# Altium footprint library MIT_Pcblib.PcbLib: 41 footprints (part 2 of 3)
Each footprint in its own frame and in the unit in brackets; x right, y up, seen from the top. Pads: shape width x height; smd on the part's side, far side on the other; paste and mask are expansions set on the pad; w line width, h text height; cw(c..) or ccw(c..) is an arc to the next point about the centre after c.
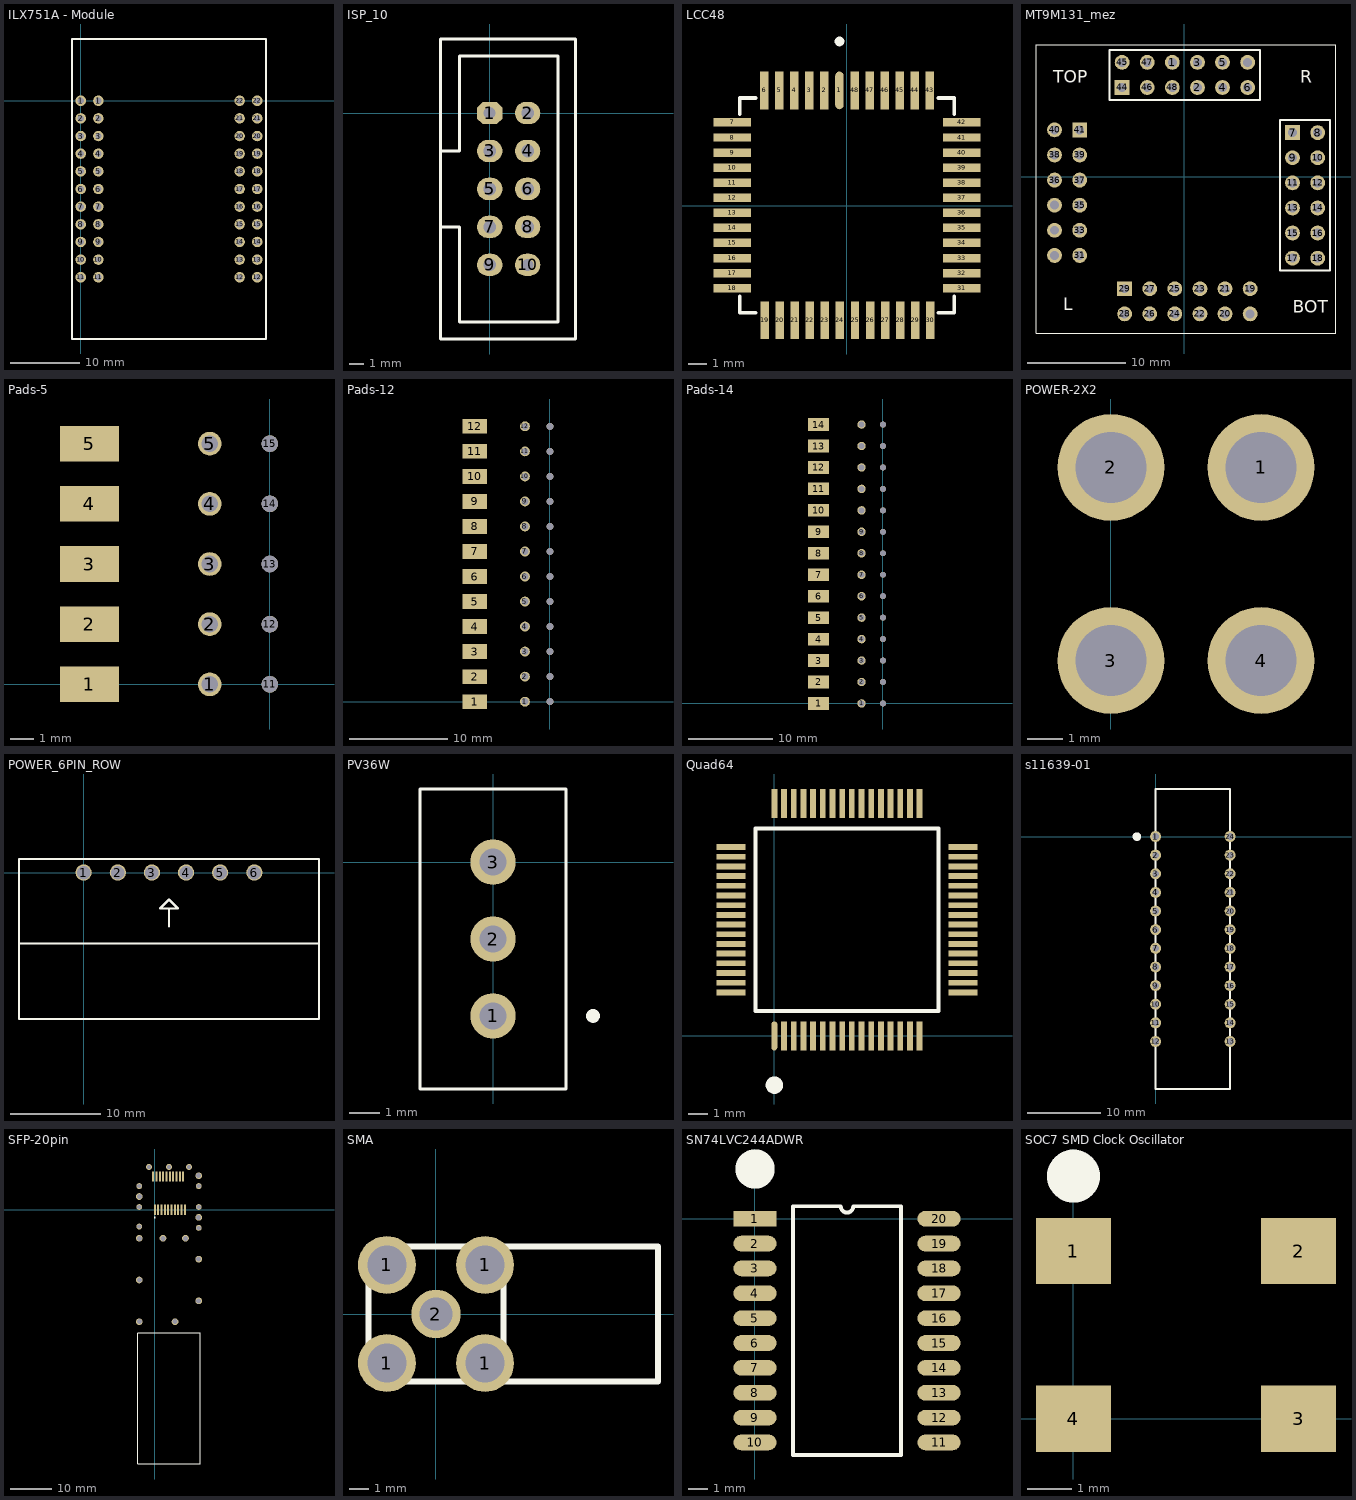
[diagram p1: the footprints below, top view; thin cyan lines are the x and y axes]

## ILX751A - Module [mm]
pads (44):
  round 1.5 hole 0.9: 1(0,0) 1(2.54,0) 2(0,-2.54) 2(2.54,-2.54) 3(0,-5.08) 3(2.54,-5.08) 4(0,-7.62) 4(2.54,-7.62) 5(0,-10.16) 5(2.54,-10.16) 6(0,-12.7) 6(2.54,-12.7) 7(0,-15.24) 7(2.54,-15.24) 8(0,-17.78) 8(2.54,-17.78) 9(0,-20.32) 9(2.54,-20.32) 10(0,-22.86) 10(2.54,-22.86) 11(0,-25.4) 11(2.54,-25.4) 12(22.86,-25.4) 12(25.4,-25.4) 13(22.86,-22.86) 13(25.4,-22.86) 14(22.86,-20.32) 14(25.4,-20.32) 15(22.86,-17.78) 15(25.4,-17.78) 16(22.86,-15.24) 16(25.4,-15.24) 17(22.86,-12.7) 17(25.4,-12.7) 18(22.86,-10.16) 18(25.4,-10.16) 19(22.86,-7.62) 19(25.4,-7.62) 20(22.86,-5.08) 20(25.4,-5.08) 21(22.86,-2.54) 21(25.4,-2.54) 22(22.86,0) 22(25.4,0)
Top Overlay:
  lines w0.3: -1.27,-34.29 26.67,-34.29 26.67,8.89 -1.27,8.89 -1.27,-34.29
3D body: height 7, standoff 6, extent -1.42,-34.44 26.82,9.04
3D body: height 10.85, standoff 7, extent 7.621,-33.273 17.779,8.127
3D body: height 6, standoff 0, extent 21.591,-26.669 26.669,1.269
3D body: height 6, standoff 0, extent -1.269,-26.669 3.809,1.269

## ISP_10 [mm]
pads (10):
  oct 1.7x1.5 hole 0.8: 1(0,0)
  oval 1.7x1.5 hole 0.85: 2(2.54,0) 3(0,-2.54) 4(2.54,-2.54) 5(0,-5.08) 6(2.54,-5.08) 7(0,-7.62) 8(2.54,-7.62) 9(0,-10.16)
  oval 1.7x1.5 hole 0.8: 10(2.54,-10.16)
Top Overlay:
  lines w0.2: -3.302,-15.12 -3.302,-7.62 ; -3.246,-15.12 5.754,-15.12 5.754,4.953 -3.302,4.953 -3.302,-2.54 ; -3.302,-7.62 -2.032,-7.62 -2.032,-13.97 4.572,-13.97 4.572,3.81 -2.032,3.81 -2.032,-2.54 -3.302,-2.54 ; -3.302,-7.62 -3.302,-2.54

## LCC48 [mm]
pads (48):
  oval 0.45x2 smd: 1(-0.381,6.111)
  rect 0.45x2 smd: 2(-1.181,6.111) 3(-1.981,6.111) 4(-2.781,6.111) 5(-3.581,6.111) 6(-4.381,6.111) 19(-4.356,-6.089) 20(-3.556,-6.089) 21(-2.756,-6.089) 22(-1.956,-6.089) 23(-1.156,-6.089) 24(-0.356,-6.089) 25(0.444,-6.089) 26(1.244,-6.089) 27(2.044,-6.089) 28(2.844,-6.089) 29(3.644,-6.089) 30(4.444,-6.089) 43(4.419,6.111) 44(3.619,6.111) 45(2.819,6.111) 46(2.019,6.111) 47(1.219,6.111) 48(0.419,6.111)
  rect 2x0.45 smd: 7(-6.081,4.411) 8(-6.081,3.611) 9(-6.081,2.811) 10(-6.081,2.011) 11(-6.081,1.211) 12(-6.081,0.411) 13(-6.081,-0.389) 14(-6.081,-1.189) 15(-6.081,-1.989) 16(-6.081,-2.789) 17(-6.081,-3.589) 18(-6.081,-4.389) 31(6.119,-4.389) 32(6.119,-3.589) 33(6.119,-2.789) 34(6.119,-1.989) 35(6.119,-1.189) 36(6.119,-0.389) 37(6.119,0.411) 38(6.119,1.211) 39(6.119,2.011) 40(6.119,2.811) 41(6.119,3.611) 42(6.119,4.411)
Top Overlay:
  circle w0.254: c-0.381,8.712 r0.13
  lines w0.2: -5.681,-4.839 -5.681,-5.689 -4.831,-5.689 ; -5.681,4.861 -5.681,5.711 -4.831,5.711 ; 4.869,-5.689 5.719,-5.689 5.719,-4.839 ; 4.869,5.711 5.719,5.711 5.719,4.861

## MT9M131_mez [mm]
pads (48):
  round 1.5 hole 0.9: 1(-1.194,11.582) 2(1.346,9.042) 3(1.346,11.582) 4(3.886,9.042) 5(3.886,11.582) 6(6.426,9.042) 8(13.513,4.47) 9(10.973,1.93) 10(13.513,1.93) 11(10.973,-0.61) 12(13.513,-0.61) 13(10.973,-3.15) 14(13.513,-3.15) 15(10.973,-5.69) 16(13.513,-5.69) 17(10.973,-8.23) 18(13.513,-8.23) 19(6.68,-11.328) 20(4.14,-13.868) 21(4.14,-11.328) 22(1.6,-13.868) 23(1.6,-11.328) 24(-0.94,-13.868) 25(-0.94,-11.328) 26(-3.48,-13.868) 27(-3.48,-11.328) 28(-6.02,-13.868) 31(-10.566,-7.95) 33(-10.566,-5.41) 35(-10.566,-2.87) 36(-13.106,-0.33) 37(-10.566,-0.33) 38(-13.106,2.21) 39(-10.566,2.21) 40(-13.106,4.75) 45(-6.274,11.582) 46(-3.734,9.042) 47(-3.734,11.582) 48(-1.194,9.042) " "(-13.106,-7.95) " "(-13.106,-5.41) " "(-13.106,-2.87) " "(6.426,11.582) " "(6.68,-13.868)
  rect 1.5x1.5 hole 0.9: 7(10.973,4.47) 29(-6.02,-11.328) 41(-10.566,4.75) 44(-6.274,9.042)
Top Overlay:
  lines w0.1: -14.986,-15.824 -14.986,13.36 15.367,13.36 ; -14.986,-15.824 -14.986,-15.824 ; -14.986,-15.824 15.367,-15.824 15.367,13.36 ; 15.367,13.36 15.367,13.36
  lines w0.2: -7.544,7.772 -7.544,12.852 7.696,12.852 7.696,7.772 -7.544,7.772 ; 9.703,-9.5 14.783,-9.5 14.783,5.74 9.703,5.74 9.703,-9.5
  text "TOP" at -13.25,9.5 h1.25
  text "BOT" at 11,-13.75 h1.25
  text "R" at 11.75,9.5 h1.25
  text "L" at -12.25,-13.5 h1.25
Bottom Overlay:
  lines w0.2: -14.376,-9.22 -14.376,6.02 -9.296,6.02 -9.296,-9.22 -14.376,-9.22 ; -7.29,-15.138 -7.29,-10.058 7.95,-10.058 7.95,-15.138 -7.29,-15.138

## Pads-5 [mm]
pads (15):
  rect 2.5x1.5 smd: 1(-7.62,0) 2(-7.62,2.54) 3(-7.62,5.08) 4(-7.62,7.62) 5(-7.62,10.16)
  round 1 hole 0.7: 1(-2.54,0) 2(-2.54,2.54) 3(-2.54,5.08) 4(-2.54,7.62) 5(-2.54,10.16)
  round 0.7 hole 0.7 unplated: 11(0,0) 12(0,2.54) 13(0,5.08) 14(0,7.62) 15(0,10.16)

## Pads-12 [mm]
pads (36):
  rect 2.5x1.5 smd: 1(-7.62,0) 2(-7.62,2.54) 3(-7.62,5.08) 4(-7.62,7.62) 5(-7.62,10.16) 6(-7.62,12.7) 7(-7.62,15.24) 8(-7.62,17.78) 9(-7.62,20.32) 10(-7.62,22.86) 11(-7.62,25.4) 12(-7.62,27.94)
  round 1 hole 0.7: 1(-2.54,0) 2(-2.54,2.54) 3(-2.54,5.08) 4(-2.54,7.62) 5(-2.54,10.16) 6(-2.54,12.7) 7(-2.54,15.24) 8(-2.54,17.78) 9(-2.54,20.32) 10(-2.54,22.86) 11(-2.54,25.4) 12(-2.54,27.94)
  round 0.7 hole 0.7 unplated: 25(0,0) 26(0,2.54) 27(0,5.08) 28(0,7.62) 29(0,10.16) 30(0,12.7) 31(0,15.24) 32(0,17.78) 33(0,20.32) 34(0,22.86) 35(0,25.4) 36(0,27.94)

## Pads-14 [mm]
pads (42):
  rect 2.5x1.5 smd: 1(-7.62,0) 2(-7.62,2.54) 3(-7.62,5.08) 4(-7.62,7.62) 5(-7.62,10.16) 6(-7.62,12.7) 7(-7.62,15.24) 8(-7.62,17.78) 9(-7.62,20.32) 10(-7.62,22.86) 11(-7.62,25.4) 12(-7.62,27.94) 13(-7.62,30.48) 14(-7.62,33.02)
  round 1 hole 0.7: 1(-2.54,0) 2(-2.54,2.54) 3(-2.54,5.08) 4(-2.54,7.62) 5(-2.54,10.16) 6(-2.54,12.7) 7(-2.54,15.24) 8(-2.54,17.78) 9(-2.54,20.32) 10(-2.54,22.86) 11(-2.54,25.4) 12(-2.54,27.94) 13(-2.54,30.48) 14(-2.54,33.02)
  round 0.7 hole 0.7 unplated: 29(0,0) 30(0,2.54) 31(0,5.08) 32(0,7.62) 33(0,10.16) 34(0,12.7) 35(0,15.24) 36(0,17.78) 37(0,20.32) 38(0,22.86) 39(0,25.4) 40(0,27.94) 41(0,30.48) 42(0,33.02)

## POWER-2X2 [mm] "POWER"
height 12.7
pads (4):
  round 3 hole 2: 1(4.217,7.62) 2(0,7.62) 3(0,2.198) 4(4.217,2.198)
3D body: height 12.7, standoff 0, extent -3.025,8.55 7.243,21.75

## POWER_6PIN_ROW [mm]
pads (6):
  round 1.8 hole 1.5: 1(0,0) 2(3.8,0) 3(7.6,0) 4(11.4,0) 5(15.2,0) 6(19,0)
Top Overlay:
  lines w0.254: 9.5,-6 9.5,-4 ; -7.2,-7.9 -7.2,-16.3 26.2,-16.3 26.2,-7.9 ; -7.2,-7.9 26.2,-7.9 ; -7.2,-7.9 -7.2,1.499 26.2,1.499 26.2,-7.9 ; 8.5,-4 9.5,-3 10.5,-4 8.5,-4
3D body: height 7.2, standoff 0, extent -7.199,-7.899 26.199,0.999
3D body: height 11, standoff -3.5, extent -7.199,-16.299 26.199,-7.901

## PV36W [mm]
pads (3):
  round 1.5 hole 0.9: 1(0,-5.08) 2(0,-2.54) 3(0,0)
Top Overlay:
  circle w0.254: c3.302,-5.08 r0.1
  lines w0.1: -2.413,-7.493 2.413,-7.493 2.413,2.413 -2.413,2.413 -2.413,-7.493

## Quad64 [mm]
pads (64):
  oval 0.3x1.5 smd: 1(0,0)
  rect 0.3x1.5 smd: 2(0.5,0) 3(1,0) 4(1.5,0) 5(2,0) 6(2.5,0) 7(3,0) 8(3.5,0) 9(4,0) 10(4.5,0) 11(5,0) 12(5.5,0) 13(6,0) 14(6.5,0) 15(7,0) 16(7.5,0) 33(7.5,12) 34(7,12) 35(6.5,12) 36(6,12) 37(5.5,12) 38(5,12) 39(4.5,12) 40(4,12) 41(3.5,12) 42(3,12) 43(2.5,12) 44(2,12) 45(1.5,12) 46(1,12) 47(0.5,12) 48(0,12)
  rect 1.5x0.3 smd: 17(9.75,2.25) 18(9.75,2.75) 19(9.75,3.25) 20(9.75,3.75) 21(9.75,4.25) 22(9.75,4.75) 23(9.75,5.25) 24(9.75,5.75) 25(9.75,6.25) 26(9.75,6.75) 27(9.75,7.25) 28(9.75,7.75) 29(9.75,8.25) 30(9.75,8.75) 31(9.75,9.25) 32(9.75,9.75) 49(-2.25,9.75) 50(-2.25,9.25) 51(-2.25,8.75) 52(-2.25,8.25) 53(-2.25,7.75) 54(-2.25,7.25) 55(-2.25,6.75) 56(-2.25,6.25) 57(-2.25,5.75) 58(-2.25,5.25) 59(-2.25,4.75) 60(-2.25,4.25) 61(-2.25,3.75) 62(-2.25,3.25) 63(-2.25,2.75) 64(-2.25,2.25)
Top Overlay:
  circle w0.5: c0,-2.54 r0.2
  lines w0.2: -0.965,1.285 -0.965,10.715 8.465,10.715 8.465,1.285 -0.965,1.285
3D body: height 1, standoff 0, extent -0.964,1.286 8.464,10.714

## s11639-01 [mm] "CMOS linear image sensor"
pads (24):
  round 1.5 hole 0.9: 1(0,0) 2(0,-2.54) 3(0,-5.08) 4(0,-7.62) 5(0,-10.16) 6(0,-12.7) 7(0,-15.24) 8(0,-17.78) 9(0,-20.32) 10(0,-22.86) 11(0,-25.4) 12(0,-27.94) 13(10.16,-27.94) 14(10.16,-25.4) 15(10.16,-22.86) 16(10.16,-20.32) 17(10.16,-17.78) 18(10.16,-15.24) 19(10.16,-12.7) 20(10.16,-10.16) 21(10.16,-7.62) 22(10.16,-5.08) 23(10.16,-2.54) 24(10.16,0)
Top Overlay:
  circle w1: c-2.54,0 r0.08
  lines w0.3: 0,-34.417 0,6.477 5.08,6.477 10.16,6.477 10.16,-34.417 0,-34.417
3D body: height 4.85, standoff 0, extent -0.025,-34.366 10.134,6.477

## SFP-20pin [mm] "SFP-20pin"
pads (40):
  rect 0.5x2.5 smd: 1(0,0) 2(0.8,0) 3(1.6,0) 4(2.4,0) 5(3.2,0) 6(4,0) 7(4.8,0) 8(5.6,0) 9(6.4,0) 10(7.2,0) 11(6.8,8) 12(6,8) 13(5.2,8) 14(4.4,8) 15(3.6,8) 16(2.8,8) 17(2,8) 18(1.2,8) 19(0.4,8) 20(-0.4,8)
  round 1.6 hole 1.2: h(-3.725,-26.8) h(-3.725,-16.8) h(-3.725,-6.8) h(-3.725,3.2) h(1.95,-6.8) h(4.85,-26.8) h(7.35,-6.8) h(10.525,-21.8) h(10.525,-11.8) h(10.525,-1.8) h(10.525,8.2)
  round 1.4 hole 1: h(-3.725,-4) h(-3.725,0.7) h(-3.725,5.7) h(-1.4,10.3) h(3.4,10.3) h(8.2,10.3) h(10.525,-4.3) h(10.525,0.7) h(10.525,5.7)
Top Overlay:
  circle w0.254: c0,-1.8 r0.1
  lines w0.254: -4.1,-29.515 -4.1,-60.9 10.9,-60.9 10.9,-29.489 ; -4.1,-29.5 10.9,-29.5 ; -2.2,-29.5 -2.2,-29.5
3D body: height 5.4, standoff 0, extent -2.2,0.401 8.999,7.8
3D body: height 0, standoff -2, extent -4.1,-60.899 10.899,-29.5
3D body: height 9, standoff 0, extent -4.1,-60.899 10.899,4.1

## SMA [mm]
pads (5):
  round 3 hole 2: 1(-2.54,-2.54) 1(-2.54,2.54) 1(2.54,-2.54) 1(2.54,2.54)
  oval 2.55x2.5 hole 1.7: 2(0,0)
Top Overlay:
  lines w0.3: 3.5,-3.5 3.5,3.5 ; 3.5,-3.5 -3.5,-3.5 -3.5,0 -3.5,3.5 3.5,3.5 ; 3.5,-3.5 11.5,-3.5 11.5,3.5 3.5,3.5
3D body: height 9.9, standoff 2.9, extent 3.501,-3.499 11.499,3.499
3D body: height 9.9, standoff 0, extent -3.499,-3.499 3.499,3.499

## SN74LVC244ADWR [mm]
pads (20):
  rect 2.2x0.8 smd: 1(0,0)
  oval 2.2x0.8 smd: 2(0,-1.27) 3(0,-2.54) 4(0,-3.81) 5(0,-5.08) 6(0,-6.35) 7(0,-7.62) 8(0,-8.89) 9(0,-10.16) 10(0,-11.43) 11(9.4,-11.43) 12(9.4,-10.16) 13(9.4,-8.89) 14(9.4,-7.62) 15(9.4,-6.35) 16(9.4,-5.08) 17(9.4,-3.81) 18(9.4,-2.54) 19(9.4,-1.27) 20(9.4,0)
Top Overlay:
  circle w1.5: c0,2.54 r0.254
  lines w0.2: 1.935,-12.065 1.935,0.635 4.382,0.635 ccw(c4.7,0.635) 5.017,0.635 7.465,0.635 7.465,-12.065 1.935,-12.065
3D body: height 2.7, standoff 0, extent 1.934,-12.066 7.466,0.636

## SOC7 SMD Clock Oscillator [mm]
pads (4):
  rect 1.7x1.5 smd: 1(0,3.8) 2(5.1,3.8) 3(5.1,0) 4(0,0)
Top Overlay:
  circle w1: c0,5.5 r0.1
3D body: height 1.8, standoff 0, extent 0.001,0.001 5.099,3.799